# Altium footprint library Tray2.PcbLib: 104 footprints (part 2 of 7)
Each footprint in its own frame and in the unit in brackets; x right, y up, seen from the top. Pads: shape width x height; smd on the part's side, far side on the other; paste and mask are expansions set on the pad; w line width, h text height; cw(c..) or ccw(c..) is an arc to the next point about the centre after c.
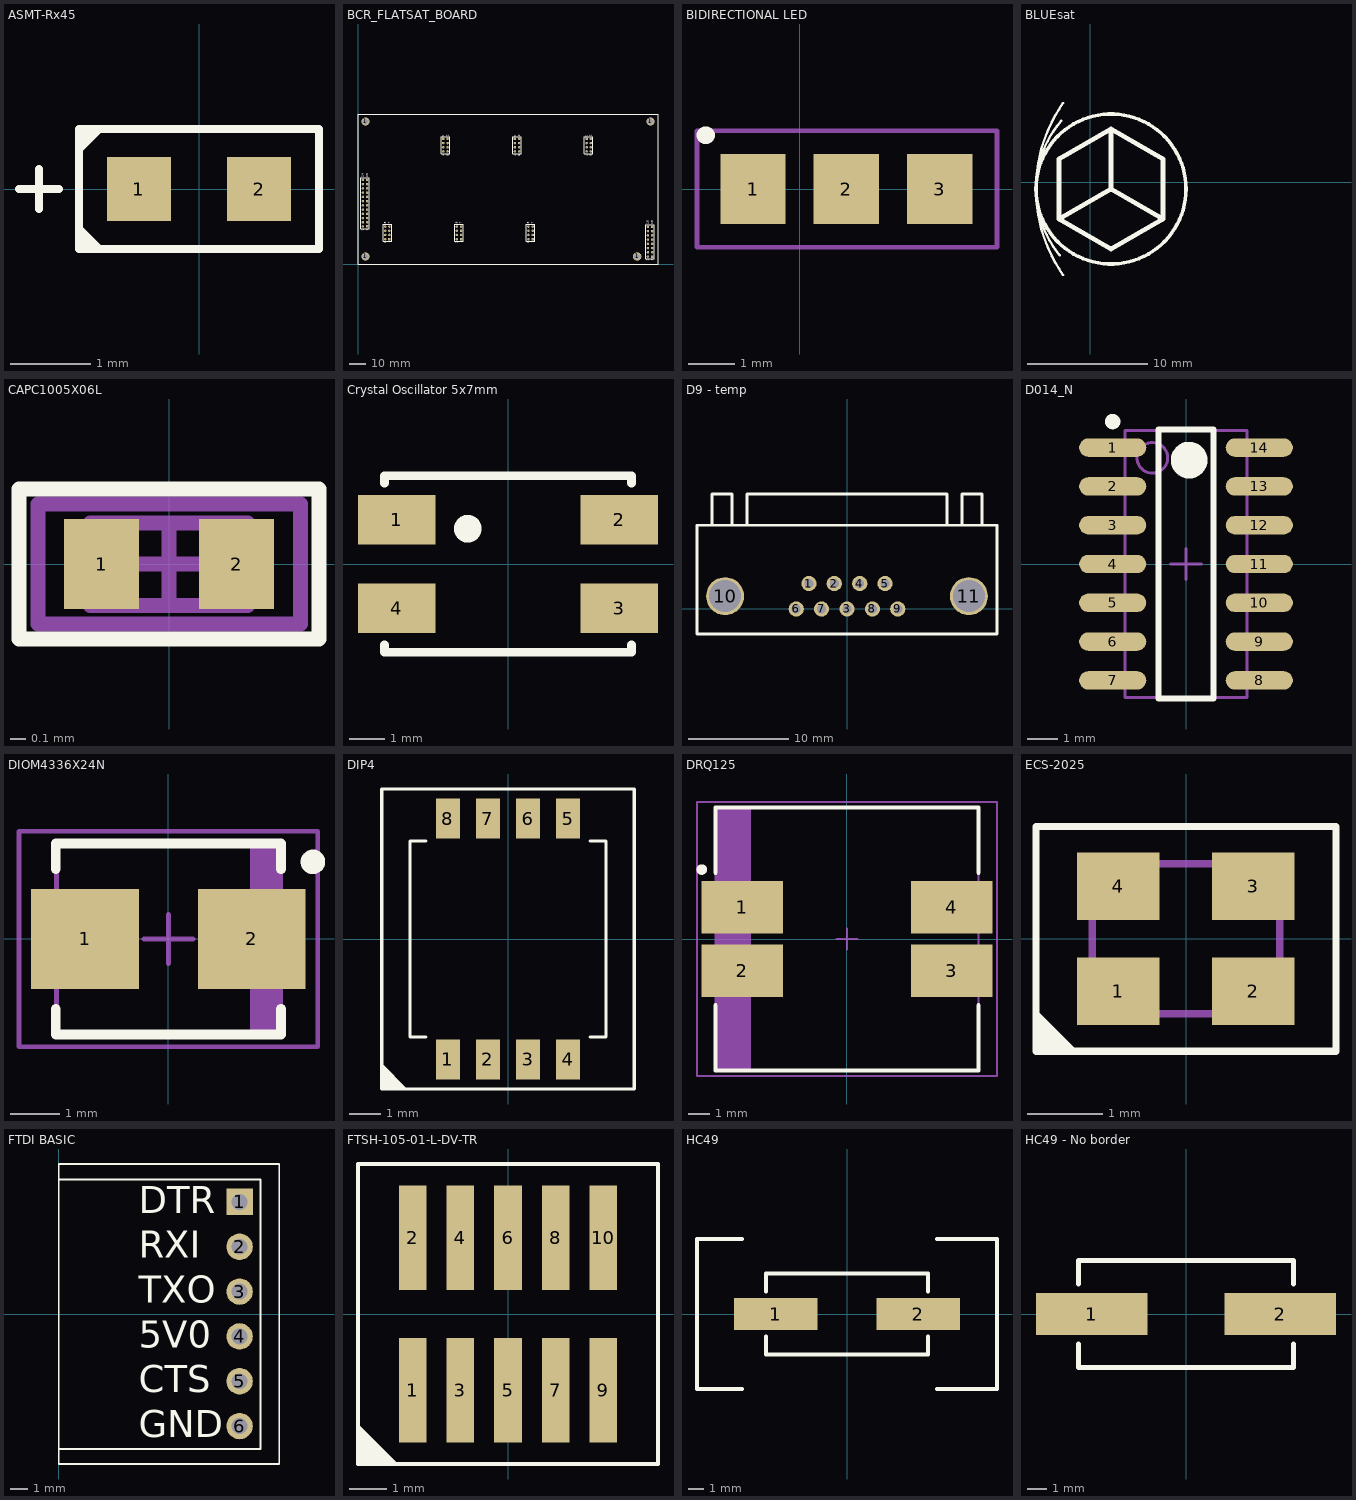
[diagram p1: the footprints below, top view; thin cyan lines are the x and y axes]

## ASMT-Rx45 [mm]
pads (2):
  rect 0.8x0.8 smd: 1(-0.75,0) 2(0.75,0)
Top Overlay:
  region: -1.25,0.75 -1.5,0.75 -1.5,0.5
  region: -1.5,-0.5 -1.25,-0.75 -1.5,-0.75
  lines w0.1: -2.25,0 -1.75,0 ; -2,-0.25 -2,0.25 ; -1.5,-0.5 -1.25,-0.75 ; -1.5,0.5 -1.25,0.75 ; -1.5,-0.75 1.5,-0.75 1.5,0.75 -1.5,0.75 -1.5,-0.75
3D body: height 0.1, standoff 0, extent -0.8,-0.4 0.8,0.4
3D body: height 0.45, standoff 0.1, extent -0.55,-0.4 0.55,0.4

## BCR_FLATSAT_BOARD [mm]
pads (140):
  round 1 hole 0.3: 1(2.5,4.5) 1(2.5,85.5) 1(2.768,3.5) 1(2.768,5.5) 1(2.768,84.5) 1(2.768,86.5) 1(3.5,2.768) 1(3.5,6.232) 1(3.5,83.768) 1(3.5,87.232) 1(4.5,2.5) 1(4.5,6.5) 1(4.5,83.5) 1(4.5,87.5) 1(5.5,2.768) 1(5.5,6.232) 1(5.5,83.768) 1(5.5,87.232) 1(6.232,3.5) 1(6.232,5.5) 1(6.232,84.5) 1(6.232,86.5) 1(6.5,4.5) 1(6.5,85.5) 1(165.5,4.5) 1(165.768,3.5) 1(165.768,5.5) 1(166.5,2.768) 1(166.5,6.232) 1(167.5,2.5) 1(167.5,6.5) 1(168.5,2.768) 1(168.5,6.232) 1(169.232,3.5) 1(169.232,5.5) 1(169.5,4.5) 1(173.5,85.5) 1(173.768,84.5) 1(173.768,86.5) 1(174.5,83.768) 1(174.5,87.232) 1(175.5,83.5) 1(175.5,87.5) 1(176.5,83.768) 1(176.5,87.232) 1(177.232,84.5) 1(177.232,86.5) 1(177.5,85.5)
  round 5 hole 3: 1(4.5,4.5) 1(4.5,85.5) 1(167.5,4.5) 1(175.5,85.5)
  rect 1.5x1.5 hole 0.9: 1(5.5,22.5) 1(18.834,14.867) 1(51.166,75.133) 1(61.834,14.867) 1(94.166,75.133) 1(104.834,14.867) 1(137.166,75.133) 1(176.5,4.5)
  round 1.5 hole 0.9: 2(2.96,22.5) 2(16.294,14.867) 2(53.706,75.133) 2(59.294,14.867) 2(96.706,75.133) 2(102.294,14.867) 2(139.706,75.133) 2(173.96,4.5) 3(5.5,25.04) 3(18.834,17.407) 3(51.166,72.593) 3(61.834,17.407) 3(94.166,72.593) 3(104.834,17.407) 3(137.166,72.593) 3(176.5,7.04) 4(2.96,25.04) 4(16.294,17.407) 4(53.706,72.593) 4(59.294,17.407) 4(96.706,72.593) 4(102.294,17.407) 4(139.706,72.593) 4(173.96,7.04) 5(5.5,27.58) 5(18.834,19.947) 5(51.166,70.053) 5(61.834,19.947) 5(94.166,70.053) 5(104.834,19.947) 5(137.166,70.053) 5(176.5,9.58) 6(2.96,27.58) 6(16.294,19.947) 6(53.706,70.053) 6(59.294,19.947) 6(96.706,70.053) 6(102.294,19.947) 6(139.706,70.053) 6(173.96,9.58) 7(5.5,30.12) 7(18.834,22.487) 7(51.166,67.513) 7(61.834,22.487) 7(94.166,67.513) 7(104.834,22.487) 7(137.166,67.513) 7(176.5,12.12) 8(2.96,30.12) 8(16.294,22.487) 8(53.706,67.513) 8(59.294,22.487) 8(96.706,67.513) 8(102.294,22.487) 8(139.706,67.513) 8(173.96,12.12) 9(5.5,32.66) 9(176.5,14.66) 10(2.96,32.66) 10(173.96,14.66) 11(5.5,35.2) 11(176.5,17.2) 12(2.96,35.2) 12(173.96,17.2) 13(5.5,37.74) 13(176.5,19.74) 14(2.96,37.74) 14(173.96,19.74) 15(5.5,40.28) 15(176.5,22.28) 16(2.96,40.28) 16(173.96,22.28) 17(5.5,42.82) 18(2.96,42.82) 19(5.5,45.36) 20(2.96,45.36) 21(5.5,47.9) 22(2.96,47.9) 23(5.5,50.44) 24(2.96,50.44)
Top Overlay:
  lines w0.2: 1.69,21.23 1.69,51.71 6.77,51.71 6.77,21.23 1.69,21.23 ; 15.024,13.597 20.104,13.597 20.104,23.757 15.024,23.757 15.024,13.597 ; 49.896,66.243 54.976,66.243 54.976,76.403 49.896,76.403 49.896,66.243 ; 58.024,13.597 63.104,13.597 63.104,23.757 58.024,23.757 58.024,13.597 ; 92.896,66.243 97.976,66.243 97.976,76.403 92.896,76.403 92.896,66.243 ; 101.024,13.597 106.104,13.597 106.104,23.757 101.024,23.757 101.024,13.597 ; 135.896,66.243 140.976,66.243 140.976,76.403 135.896,76.403 135.896,66.243 ; 172.69,3.23 172.69,23.55 177.77,23.55 177.77,3.23 172.69,3.23
  lines w0.254: 0,0 180,0 180,90 0,90 0,0
  text "24" at 3.468,51.964 h1.27
  text "23" at 6.008,51.964 h1.27
  text "2" at 3.468,19.96 h1.27
  text "1" at 6.008,19.96 h1.27
  text "16" at 174.468,23.804 h1.27
  text "15" at 177.008,23.804 h1.27
  text "1" at 177.008,1.96 h1.27
  text "2" at 174.468,1.96 h1.27
  text "8" at 139.198,65.989 h1.27
  text "7" at 136.658,65.989 h1.27
  text "1" at 136.658,77.165 h1.27
  text "2" at 139.198,77.673 h1.27
  text "8" at 16.802,24.011 h1.27
  text "7" at 19.342,24.011 h1.27
  text "1" at 19.342,12.835 h1.27
  text "2" at 16.802,12.327 h1.27
  text "8" at 53.198,65.989 h1.27
  text "7" at 50.658,65.989 h1.27
  text "1" at 50.658,77.165 h1.27
  text "2" at 53.198,77.673 h1.27
  text "8" at 102.802,24.011 h1.27
  text "7" at 105.342,24.011 h1.27
  text "1" at 105.342,12.835 h1.27
  text "2" at 102.802,12.327 h1.27
  text "8" at 96.198,65.989 h1.27
  text "7" at 93.658,65.989 h1.27
  text "1" at 93.658,77.165 h1.27
  text "2" at 96.198,77.673 h1.27
  text "8" at 59.802,24.011 h1.27
  text "7" at 62.342,24.011 h1.27
  text "1" at 62.342,12.835 h1.27
  text "2" at 59.802,12.327 h1.27

## BIDIRECTIONAL LED [mm]
height 0.7
pads (3):
  rect 1.4x1.5 smd: 1(-1,0) 2(1,0) 3(3,0)
Top Overlay:
  lines w0.381: -2.025,1.15 -2,1.15
Mechanical 15:
  lines w0.1: 2.2,1.25 -2.2,1.25 -2.2,-1.25 4.225,-1.25
  lines w0.102: 2.15,1.25 4.225,1.25 4.225,-1.25

## BLUEsat [mm]
Top Overlay:
  circle w0.3: c1.746,-0.552 r6.25
  lines w0.2: -2.537,-6.079 cw(c4.246,-0.552) -2.415,5.122 ; -2.243,-7.722 cw(c7.996,-0.552) -2.243,6.618
  lines w0.4: -2.584,-3.052 1.746,-0.552 ; -2.584,-3.052 1.746,-5.552 6.076,-3.052 ; -2.584,-3.052 -2.584,1.948 1.746,4.448 ; 1.746,-0.552 1.746,4.448 ; 1.746,-0.552 6.076,-3.052 ; 1.746,4.448 6.076,1.948 6.076,-3.052

## CAPC1005X06L [mm] "Chip Capacitor, 2-Leads, Body 1.0x0.5mm, IPC High Density"
height 0.55
pads (2):
  rect 0.5x0.6 smd: 1(-0.45,0) 2(0.45,0)
Top Overlay:
  lines w0.1: -1,-0.5 1,-0.5 1,0.5 -1,0.5 -1,-0.5
Mechanical 13:
  lines w0.1: -0.525,-0.275 0.525,-0.275 0.525,0.275 -0.525,0.275 -0.525,-0.275
Mechanical 15:
  lines w0.1: -0.275,0 0.275,0 ; 0,-0.275 0,0.275 ; -0.875,-0.4 0.875,-0.4 0.875,0.4 -0.875,0.4 -0.875,-0.4
3D body: height 0.55, standoff 0, extent -0.525,-0.275 0.525,0.275

## Crystal Oscillator 5x7mm [mm]
height 2
pads (4):
  rect 2.2x1.4 smd: 1(-3.15,1.25) 2(3.15,1.25) 3(3.15,-1.25) 4(-3.15,-1.25)
Top Overlay:
  circle w0.5: c-1.141,1 r0.141
  lines w0.254: -3.5,-2.3 -3.5,-2.5 3.5,-2.5 3.5,-2.3 ; -3.5,2.3 -3.5,2.5 3.5,2.5 3.5,2.3
3D body: height 1.2, standoff 0, extent -3.5,-2.5 3.5,2.505

## D9 - temp [mil] "GLENAIR MICRO-D9"
pads (11):
  round 60 hole 35.43: 1(-150,100) 2(-50,100) 3(0,0) 4(50,100) 5(150,100) 6(-200,0) 7(-100,0) 8(100,0) 9(200,0)
  round 149.61 hole 125.98: 10(-479.85,50.47) 11(479.85,50.47)
Top Overlay:
  lines w10: -531.5,330 -531.5,452.76 -452.76,452.76 -452.76,330 ; -393.7,330 -393.7,452.76 393.7,452.76 393.7,330 ; -334.65,330 0,330 ; 196.85,330 0,330 ; 334.65,330 0,330 ; 452.76,330 452.76,334.65 452.76,452.76 531.5,452.76 531.5,330 ; 0,330 590.55,330 590.55,-98.43 -570.87,-98.43 -590.55,-98.43 -590.55,330 0,330

## D014_N [mm] "SOIC, 14-Leads, Body 8.7x3.9mm, Pitch 1.27mm, IPC Medium Density"
height 1.75
pads (14):
  oval 2.2x0.6 smd: 1(-2.4,3.81) 2(-2.4,2.54) 3(-2.4,1.27) 4(-2.4,0) 5(-2.4,-1.27) 6(-2.4,-2.54) 7(-2.4,-3.81) 8(2.4,-3.81) 9(2.4,-2.54) 10(2.4,-1.27) 11(2.4,0) 12(2.4,1.27) 13(2.4,2.54) 14(2.4,3.81)
Top Overlay:
  circle w0.6: c0.1,3.4 r0.3
  circle w0.25: c-2.4,4.66 r0.125
  lines w0.2: -0.9,-4.4 0.9,-4.4 0.9,4.4 -0.9,4.4 -0.9,-4.4
Mechanical 13:
  circle w0.1: c-1.1,3.475 r0.5
  lines w0.1: -2,-4.375 2,-4.375 2,4.375 -2,4.375 -2,-4.375
Mechanical 15:
  lines w0.1: -0.5,0 0.5,0 ; 0,-0.5 0,0.5
3D body: height 1.75, standoff 0, extent -2,-4.375 2,4.375

## DIOM4336X24N [mm] "Molded Diode, 2-Leads, Body 4.3x3.6mm, IPC Medium Density"
height 2.41
pads (2):
  rect 2.2x2.05 smd: 1(-1.7,0) 2(1.7,0)
Top Overlay:
  circle w0.25: c2.95,1.575 r0.125
  lines w0.2: -2.3,-1.425 -2.3,-1.95 2.3,-1.95 2.3,-1.425 ; -2.3,1.425 -2.3,1.95 2.3,1.95 2.3,1.425
Mechanical 13:
  rectangle: 1.67,-1.905 2.285,1.905
  lines w0.1: -2.285,-1.905 2.285,-1.905 2.285,1.905 -2.285,1.905 -2.285,-1.905
Mechanical 15:
  lines w0.1: -0.5,0 0.5,0 ; 0,-0.5 0,0.5 ; -3.05,-2.2 3.05,-2.2 3.05,2.2 -3.05,2.2 -3.05,-2.2
3D body: height 2.41, standoff 0, extent -2.285,-1.905 2.285,1.905

## DIP4 [mm]
pads (8):
  rect 0.76x1.27 smd: 1(-1.905,-3.81) 2(-0.635,-3.81) 3(0.635,-3.81) 4(1.905,-3.81) 5(1.905,3.81) 6(0.635,3.81) 7(-0.635,3.81) 8(-1.905,3.81)
Top Overlay:
  region: -4,-4 -3.25,-4.75 -4,-4.75
  lines w0.1: -4,-4 -3.25,-4.75 ; -2.6,-3.1 -3.1,-3.1 -3.1,3.1 -2.6,3.1 ; 2.6,-3.1 3.1,-3.1 3.1,3.1 2.6,3.1 ; -4,-4.75 4,-4.75 4,4.75 -4,4.75 -4,-4.75
3D body: height 2.31, standoff 0, extent -3.099,-4.064 3.099,4.064

## DRQ125 [mm]
height 6
pads (4):
  rect 3.85x2.5 smd: 1(-4.975,1.5) 2(-4.975,-1.5) 3(4.975,-1.5) 4(4.975,1.5)
Top Overlay:
  circle w0.25: c-6.9,3.3 r0.125
  lines w0.2: -6.25,-3.15 -6.25,-6.25 6.25,-6.25 6.25,-3.15 ; -6.25,3.15 -6.25,6.25 6.25,6.25 6.25,3.15
Mechanical 13:
  rectangle: -6.25,-6.25 -4.569,6.25
  lines w0.1: -6.25,-6.25 6.25,-6.25 6.25,6.25 -6.25,6.25 -6.25,-6.25
Mechanical 15:
  lines w0.1: -0.5,0 0.5,0 ; 0,-0.5 0,0.5 ; -7.125,-6.5 7.125,-6.5 7.125,6.5 -7.125,6.5 -7.125,-6.5
3D body: height 6, standoff 0, extent -6.25,-6.25 6.25,6.25

## ECS-2025 [mm] "SMD Clock Oscillator"
pads (4):
  rect 1.1x0.9 smd: 1(-0.9,-0.7) 2(0.9,-0.7) 3(0.9,0.7) 4(-0.9,0.7)
Top Overlay:
  region: -2,-1 -2,-1.5 -1.5,-1.5
  lines w0.1: -2,-1 -1.5,-1.5 ; -2,-1.5 -2,1.5 2,1.5 2,-1.5 -2,-1.5
Mechanical 13:
  lines w0.1: -1.25,-1 1.25,-1 1.25,1 -1.25,1 -1.25,-1
3D body: height 0.9, standoff 0.05, extent -1.25,-1 1.25,1

## FTDI BASIC [mm]
pads (6):
  rect 1.5x1.5 hole 0.9: 1(10.25,6.35)
  round 1.5 hole 0.9: 2(10.25,3.81) 3(10.25,1.27) 4(10.25,-1.27) 5(10.25,-3.81) 6(10.25,-6.35)
Top Overlay:
  lines w0.1: 11.43,-7.65 0,-7.65 ; 11.43,-7.62 11.43,7.62 0,7.62 ; 0,-7.65 0,7.62 ; 0,-7.65 0,-8.5 12.5,-8.5 12.5,8.5 0,8.5 0,7.62
  text "5V0" at 4.535,-1.905 h1.52
  text "CTS" at 4.535,-4.445 h1.52
  text "GND" at 4.535,-6.985 h1.52
  text "DTR" at 4.535,5.715 h1.52
  text "RXI" at 4.535,3.175 h1.52
  text "TXO" at 4.535,0.635 h1.52
3D body: height 2.51, standoff -3.02, extent -0.024,-7.62 10.555,7.62

## FTSH-105-01-L-DV-TR [mil] "http://www.samtec.com/ftppub/cpdf/FTSHMKT1.PDF"
pads (10):
  rect 29x110 smd: 1(-100,-80) 2(-100,80) 3(-50,-80) 4(-50,80) 5(0,-80) 6(0,80) 7(50,-80) 8(50,80) 9(100,-80) 10(100,80)
Top Overlay:
  region: -157.48,-118.11 -118.11,-157.48 -157.48,-157.48
  lines w3.94: -157.48,-118.11 -118.11,-157.48 ; -157.48,-157.48 157.48,-157.48 157.48,157.48 -157.48,157.48 -157.48,-157.48
3D body: height 234.5, standoff -0.5, extent -125,-115 125,115

## HC49 [mm] "Crystal Oscilator"
pads (2):
  rect 5.6x2.1 smd: 1(-4.75,0) 2(4.75,0)
Top Overlay:
  lines w0.254: -7,-5 -10,-5 -10,5 -7,5 ; -5.4,-1.5 -5.4,-2.7 5.4,-2.7 5.4,-1.5 ; -5.4,1.5 -5.4,2.7 5.4,2.7 5.4,1.5 ; 6,-5 10,-5 10,5 6,5
3D body: height 1, standoff 0.1, extent -5.4,-2.7 5.4,2.7
3D body: height 4.2, standoff 0, extent 1.016,-1.996 5,1.996
3D body: height 4.2, standoff 0, extent -4.984,-1.996 -1,1.996
3D body: height 4.2, standoff 0, extent -2.992,-1.996 3.008,1.996

## HC49 - No border [mm] "Crystal Oscilator"
pads (2):
  rect 5.6x2.1 smd: 1(-4.75,0) 2(4.75,0)
Top Overlay:
  lines w0.254: -5.4,-1.5 -5.4,-2.7 5.4,-2.7 5.4,-1.5 ; -5.4,1.5 -5.4,2.7 5.4,2.7 5.4,1.5
3D body: height 1, standoff 0.1, extent -5.4,-2.7 5.4,2.7
3D body: height 4.2, standoff 0, extent 1.016,-1.996 5,1.996
3D body: height 4.2, standoff 0, extent -4.984,-1.996 -1,1.996
3D body: height 4.2, standoff 0, extent -2.992,-1.996 3.008,1.996